# Altium footprint library Connector_IDC.PcbLib: 182 footprints (part 5 of 12)
Each footprint in its own frame and in the unit in brackets; x right, y up, seen from the top. Pads: shape width x height; smd on the part's side, far side on the other; paste and mask are expansions set on the pad; w line width, h text height; cw(c..) or ccw(c..) is an arc to the next point about the centre after c.
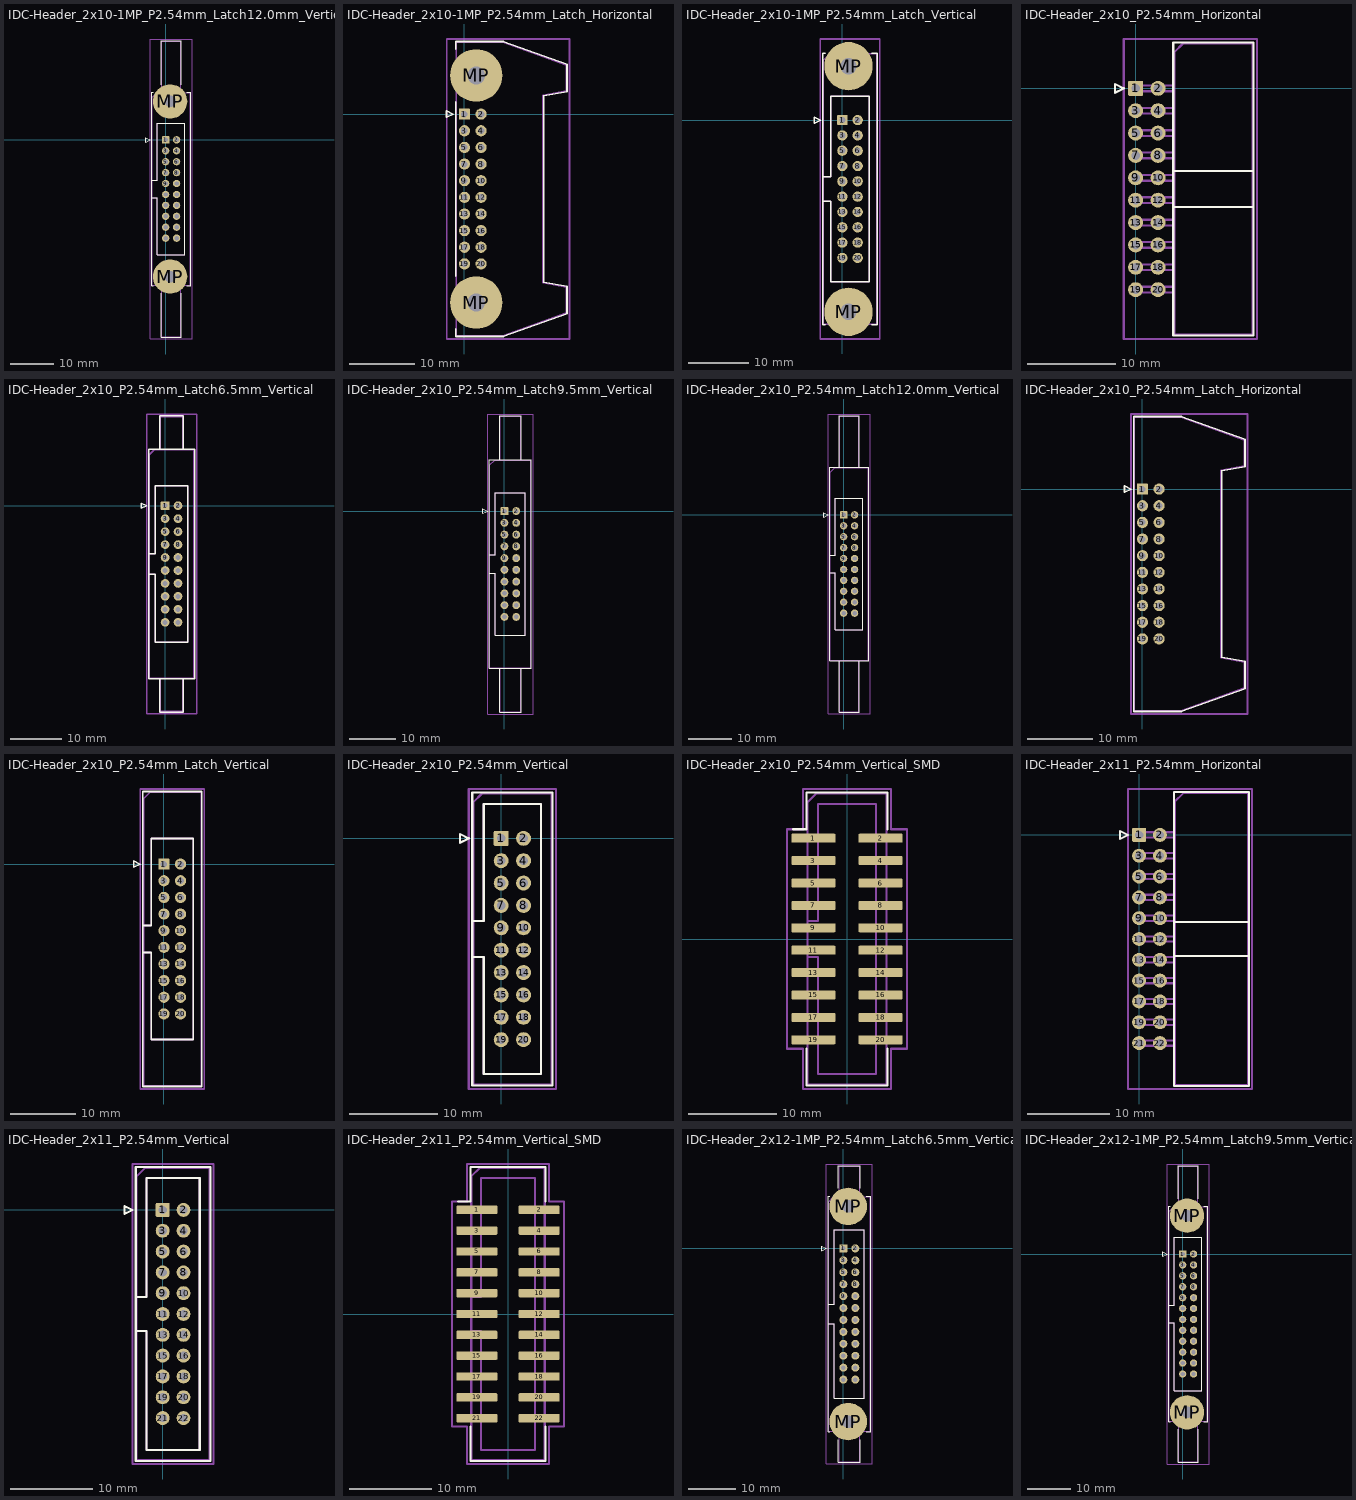
[diagram p4: the footprints below, top view; thin cyan lines are the x and y axes]

## IDC-Header_2x10-1MP_P2.54mm_Latch12.0mm_Vertical [mm]
pads (22):
  rrect15% 1.7x1.7 hole 1: 1(0,0)
  round 1.7 hole 1: 2(2.54,0) 3(0,-2.54) 4(2.54,-2.54) 5(0,-5.08) 6(2.54,-5.08) 7(0,-7.62) 8(2.54,-7.62) 9(0,-10.16) 10(2.54,-10.16) 11(0,-12.7) 12(2.54,-12.7) 13(0,-15.24) 14(2.54,-15.24) 15(0,-17.78) 16(2.54,-17.78) 17(0,-20.32) 18(2.54,-20.32) 19(0,-22.86) 20(2.54,-22.86)
  round 8 hole 2.69: MP(1.02,-31.8) MP(1.02,8.94)
F.SilkS:
  lines w0.254: -3.24,-13.48 -1.93,-13.48 -1.93,-26.78 4.47,-26.78 4.47,3.92 -1.93,3.92 -1.93,-9.38 -3.24,-9.38 ; -2.87,-33.94 -3.24,-33.94 -3.24,11.08 -2.87,11.08 ; -1.04,-35.69 -1.04,-45.94 3.58,-45.94 3.58,-35.69 ; -1.04,12.83 -1.04,23.08 3.58,23.08 3.58,12.83 ; 4.91,-33.94 5.78,-33.94 5.78,11.08 4.91,11.08 ; -4.63,-0.5 -3.63,0 -4.63,0.5 -4.63,-0.5
Top Assembly:
  lines w0.254: -3.13,-13.48 -1.93,-13.48 -1.93,-26.78 4.47,-26.78 4.47,3.92 -1.93,3.92 -1.93,-9.38 -3.13,-9.38 ; -0.93,-33.83 -0.93,-45.83 3.47,-45.83 3.47,-33.83 ; -0.93,10.97 -0.93,22.97 3.47,22.97 3.47,10.97 ; -3.13,-33.83 5.67,-33.83 5.67,10.97 -2.13,10.97 -3.13,9.97 -3.13,-33.83
  text "'.Designator'" at 2.11,-15.477 h1
Top Courtyard:
  lines w0.254: -3.63,-46.33 6.17,-46.33 6.17,23.47 -3.63,23.47 -3.63,-46.33
Top Designator:
  text ".Designator" at -6.848,-11.938 h1.52

## IDC-Header_2x10-1MP_P2.54mm_Latch_Horizontal [mm]
pads (22):
  rrect15% 1.7x1.7 hole 1: 1(0,0)
  round 1.7 hole 1: 2(2.54,0) 3(0,-2.54) 4(2.54,-2.54) 5(0,-5.08) 6(2.54,-5.08) 7(0,-7.62) 8(2.54,-7.62) 9(0,-10.16) 10(2.54,-10.16) 11(0,-12.7) 12(2.54,-12.7) 13(0,-15.24) 14(2.54,-15.24) 15(0,-17.78) 16(2.54,-17.78) 17(0,-20.32) 18(2.54,-20.32) 19(0,-22.86) 20(2.54,-22.86)
  round 8 hole 2.69: MP(1.8,-28.765) MP(1.8,5.905)
F.SilkS:
  lines w0.254: -1.35,-32.765 -1.35,-33.94 5.98,-33.94 15.64,-30.47 15.64,-26.28 12.08,-25.65 12.08,2.79 15.64,3.42 15.64,7.61 5.98,11.08 -1.35,11.08 -1.35,9.905 ; -1.35,-24.765 -1.35,1.905 ; -2.74,-0.5 -1.74,0 -2.74,0.5 -2.74,-0.5
Top Assembly:
  lines w0.254: -1.24,-33.83 5.87,-33.83 15.53,-30.36 15.53,-26.39 11.97,-25.76 11.97,2.9 15.53,3.53 15.53,7.5 5.87,10.97 -1.24,10.97 -1.24,-33.83
  text "'.Designator'" at 7.985,-15.477 h1
Top Courtyard:
  lines w0.254: -2.7,-34.33 16.03,-34.33 16.03,11.47 -2.7,11.47 -2.7,-34.33
Top Designator:
  text ".Designator" at -0.973,-11.938 h1.52

## IDC-Header_2x10-1MP_P2.54mm_Latch_Vertical [mm]
pads (22):
  rrect15% 1.7x1.7 hole 1: 1(0,0)
  round 1.7 hole 1: 2(2.54,0) 3(0,-2.54) 4(2.54,-2.54) 5(0,-5.08) 6(2.54,-5.08) 7(0,-7.62) 8(2.54,-7.62) 9(0,-10.16) 10(2.54,-10.16) 11(0,-12.7) 12(2.54,-12.7) 13(0,-15.24) 14(2.54,-15.24) 15(0,-17.78) 16(2.54,-17.78) 17(0,-20.32) 18(2.54,-20.32) 19(0,-22.86) 20(2.54,-22.86)
  round 8 hole 2.69: MP(1.02,-31.8) MP(1.02,8.94)
F.SilkS:
  lines w0.254: -3.24,-13.48 -1.93,-13.48 -1.93,-26.78 4.47,-26.78 4.47,3.92 -1.93,3.92 -1.93,-9.38 -3.24,-9.38 ; -2.87,-33.94 -3.24,-33.94 -3.24,11.08 -2.87,11.08 ; 4.91,-33.94 5.78,-33.94 5.78,11.08 4.91,11.08 ; -4.63,-0.5 -3.63,0 -4.63,0.5 -4.63,-0.5
Top Assembly:
  lines w0.254: -3.13,-13.48 -1.93,-13.48 -1.93,-26.78 4.47,-26.78 4.47,3.92 -1.93,3.92 -1.93,-9.38 -3.13,-9.38 ; -3.13,-33.83 5.67,-33.83 5.67,10.97 -2.13,10.97 -3.13,9.97 -3.13,-33.83
  text "'.Designator'" at 2.11,-15.477 h1
Top Courtyard:
  lines w0.254: -3.63,-36.3 6.17,-36.3 6.17,13.44 -3.63,13.44 -3.63,-36.3
Top Designator:
  text ".Designator" at -6.848,-11.938 h1.52

## IDC-Header_2x10_P2.54mm_Horizontal [mm]
pads (20):
  rrect15% 1.7x1.7 hole 1: 1(0,0)
  round 1.7 hole 1: 2(2.54,0) 3(0,-2.54) 4(2.54,-2.54) 5(0,-5.08) 6(2.54,-5.08) 7(0,-7.62) 8(2.54,-7.62) 9(0,-10.16) 10(2.54,-10.16) 11(0,-12.7) 12(2.54,-12.7) 13(0,-15.24) 14(2.54,-15.24) 15(0,-17.78) 16(2.54,-17.78) 17(0,-20.32) 18(2.54,-20.32) 19(0,-22.86) 20(2.54,-22.86)
F.SilkS:
  lines w0.254: 4.27,-13.48 13.39,-13.48 ; 4.27,-9.38 13.39,-9.38 ; -2.35,-0.5 -1.35,0 -2.35,0.5 -2.35,-0.5 ; 4.27,-28.07 13.39,-28.07 13.39,5.21 4.27,5.21 4.27,-28.07
Top Assembly:
  lines w0.254: 4.38,-23.18 -0.32,-23.18 -0.32,-22.54 4.38,-22.54 ; 4.38,-20.64 -0.32,-20.64 -0.32,-20 4.38,-20 ; 4.38,-18.1 -0.32,-18.1 -0.32,-17.46 4.38,-17.46 ; 4.38,-15.56 -0.32,-15.56 -0.32,-14.92 4.38,-14.92 ; 4.38,-13.48 13.28,-13.48 ; 4.38,-13.02 -0.32,-13.02 -0.32,-12.38 4.38,-12.38 ; 4.38,-10.48 -0.32,-10.48 -0.32,-9.84 4.38,-9.84 ; 4.38,-9.38 13.28,-9.38 ; 4.38,-7.94 -0.32,-7.94 -0.32,-7.3 4.38,-7.3 ; 4.38,-5.4 -0.32,-5.4 -0.32,-4.76 4.38,-4.76 ; 4.38,-2.86 -0.32,-2.86 -0.32,-2.22 4.38,-2.22 ; 4.38,-0.32 -0.32,-0.32 -0.32,0.32 4.38,0.32 ; 4.38,-27.96 13.28,-27.96 13.28,5.1 5.38,5.1 4.38,4.1 4.38,-27.96
  text "'.Designator'" at 9.67,-15.477 h1
Top Courtyard:
  lines w0.254: -1.35,-28.46 13.78,-28.46 13.78,5.6 -1.35,5.6 -1.35,-28.46
Top Designator:
  text ".Designator" at -1.903,-11.938 h1.52

## IDC-Header_2x10_P2.54mm_Latch6.5mm_Vertical [mm]
pads (20):
  rrect15% 1.7x1.7 hole 1: 1(0,0)
  round 1.7 hole 1: 2(2.54,0) 3(0,-2.54) 4(2.54,-2.54) 5(0,-5.08) 6(2.54,-5.08) 7(0,-7.62) 8(2.54,-7.62) 9(0,-10.16) 10(2.54,-10.16) 11(0,-12.7) 12(2.54,-12.7) 13(0,-15.24) 14(2.54,-15.24) 15(0,-17.78) 16(2.54,-17.78) 17(0,-20.32) 18(2.54,-20.32) 19(0,-22.86) 20(2.54,-22.86)
F.SilkS:
  lines w0.254: -3.24,-13.48 -1.93,-13.48 -1.93,-26.78 4.47,-26.78 4.47,3.92 -1.93,3.92 -1.93,-9.38 -3.24,-9.38 ; -1.04,-33.94 -1.04,-40.44 3.58,-40.44 3.58,-33.94 ; -1.04,11.08 -1.04,17.58 3.58,17.58 3.58,11.08 ; -4.63,-0.5 -3.63,0 -4.63,0.5 -4.63,-0.5 ; -3.24,-33.94 5.78,-33.94 5.78,11.08 -3.24,11.08 -3.24,-33.94
Top Assembly:
  lines w0.254: -3.13,-13.48 -1.93,-13.48 -1.93,-26.78 4.47,-26.78 4.47,3.92 -1.93,3.92 -1.93,-9.38 -3.13,-9.38 ; -0.93,-33.83 -0.93,-40.33 3.47,-40.33 3.47,-33.83 ; -0.93,10.97 -0.93,17.47 3.47,17.47 3.47,10.97 ; -3.13,-33.83 5.67,-33.83 5.67,10.97 -2.13,10.97 -3.13,9.97 -3.13,-33.83
  text "'.Designator'" at 2.11,-15.477 h1
Top Courtyard:
  lines w0.254: -3.63,-40.83 6.17,-40.83 6.17,17.97 -3.63,17.97 -3.63,-40.83
Top Designator:
  text ".Designator" at -6.848,-11.938 h1.52

## IDC-Header_2x10_P2.54mm_Latch9.5mm_Vertical [mm]
pads (20):
  rrect15% 1.7x1.7 hole 1: 1(0,0)
  round 1.7 hole 1: 2(2.54,0) 3(0,-2.54) 4(2.54,-2.54) 5(0,-5.08) 6(2.54,-5.08) 7(0,-7.62) 8(2.54,-7.62) 9(0,-10.16) 10(2.54,-10.16) 11(0,-12.7) 12(2.54,-12.7) 13(0,-15.24) 14(2.54,-15.24) 15(0,-17.78) 16(2.54,-17.78) 17(0,-20.32) 18(2.54,-20.32) 19(0,-22.86) 20(2.54,-22.86)
F.SilkS:
  lines w0.254: -3.24,-13.48 -1.93,-13.48 -1.93,-26.78 4.47,-26.78 4.47,3.92 -1.93,3.92 -1.93,-9.38 -3.24,-9.38 ; -1.04,-33.94 -1.04,-43.44 3.58,-43.44 3.58,-33.94 ; -1.04,11.08 -1.04,20.58 3.58,20.58 3.58,11.08 ; -4.63,-0.5 -3.63,0 -4.63,0.5 -4.63,-0.5 ; -3.24,-33.94 5.78,-33.94 5.78,11.08 -3.24,11.08 -3.24,-33.94
Top Assembly:
  lines w0.254: -3.13,-13.48 -1.93,-13.48 -1.93,-26.78 4.47,-26.78 4.47,3.92 -1.93,3.92 -1.93,-9.38 -3.13,-9.38 ; -0.93,-33.83 -0.93,-43.33 3.47,-43.33 3.47,-33.83 ; -0.93,10.97 -0.93,20.47 3.47,20.47 3.47,10.97 ; -3.13,-33.83 5.67,-33.83 5.67,10.97 -2.13,10.97 -3.13,9.97 -3.13,-33.83
  text "'.Designator'" at 2.11,-15.477 h1
Top Courtyard:
  lines w0.254: -3.63,-43.83 6.17,-43.83 6.17,20.97 -3.63,20.97 -3.63,-43.83
Top Designator:
  text ".Designator" at -6.848,-11.938 h1.52

## IDC-Header_2x10_P2.54mm_Latch12.0mm_Vertical [mm]
pads (20):
  rrect15% 1.7x1.7 hole 1: 1(0,0)
  round 1.7 hole 1: 2(2.54,0) 3(0,-2.54) 4(2.54,-2.54) 5(0,-5.08) 6(2.54,-5.08) 7(0,-7.62) 8(2.54,-7.62) 9(0,-10.16) 10(2.54,-10.16) 11(0,-12.7) 12(2.54,-12.7) 13(0,-15.24) 14(2.54,-15.24) 15(0,-17.78) 16(2.54,-17.78) 17(0,-20.32) 18(2.54,-20.32) 19(0,-22.86) 20(2.54,-22.86)
F.SilkS:
  lines w0.254: -3.24,-13.48 -1.93,-13.48 -1.93,-26.78 4.47,-26.78 4.47,3.92 -1.93,3.92 -1.93,-9.38 -3.24,-9.38 ; -1.04,-33.94 -1.04,-45.94 3.58,-45.94 3.58,-33.94 ; -1.04,11.08 -1.04,23.08 3.58,23.08 3.58,11.08 ; -4.63,-0.5 -3.63,0 -4.63,0.5 -4.63,-0.5 ; -3.24,-33.94 5.78,-33.94 5.78,11.08 -3.24,11.08 -3.24,-33.94
Top Assembly:
  lines w0.254: -3.13,-13.48 -1.93,-13.48 -1.93,-26.78 4.47,-26.78 4.47,3.92 -1.93,3.92 -1.93,-9.38 -3.13,-9.38 ; -0.93,-33.83 -0.93,-45.83 3.47,-45.83 3.47,-33.83 ; -0.93,10.97 -0.93,22.97 3.47,22.97 3.47,10.97 ; -3.13,-33.83 5.67,-33.83 5.67,10.97 -2.13,10.97 -3.13,9.97 -3.13,-33.83
  text "'.Designator'" at 2.11,-15.477 h1
Top Courtyard:
  lines w0.254: -3.63,-46.33 6.17,-46.33 6.17,23.47 -3.63,23.47 -3.63,-46.33
Top Designator:
  text ".Designator" at -6.848,-11.938 h1.52

## IDC-Header_2x10_P2.54mm_Latch_Horizontal [mm]
pads (20):
  rrect15% 1.7x1.7 hole 1: 1(0,0)
  round 1.7 hole 1: 2(2.54,0) 3(0,-2.54) 4(2.54,-2.54) 5(0,-5.08) 6(2.54,-5.08) 7(0,-7.62) 8(2.54,-7.62) 9(0,-10.16) 10(2.54,-10.16) 11(0,-12.7) 12(2.54,-12.7) 13(0,-15.24) 14(2.54,-15.24) 15(0,-17.78) 16(2.54,-17.78) 17(0,-20.32) 18(2.54,-20.32) 19(0,-22.86) 20(2.54,-22.86)
F.SilkS:
  lines w0.254: -2.74,-0.5 -1.74,0 -2.74,0.5 -2.74,-0.5 ; -1.35,-33.94 5.98,-33.94 15.64,-30.47 15.64,-26.28 12.08,-25.65 12.08,2.79 15.64,3.42 15.64,7.61 5.98,11.08 -1.35,11.08 -1.35,-33.94
Top Assembly:
  lines w0.254: -1.24,-33.83 5.87,-33.83 15.53,-30.36 15.53,-26.39 11.97,-25.76 11.97,2.9 15.53,3.53 15.53,7.5 5.87,10.97 -1.24,10.97 -1.24,-33.83
  text "'.Designator'" at 7.985,-15.477 h1
Top Courtyard:
  lines w0.254: -1.74,-34.33 16.03,-34.33 16.03,11.47 -1.74,11.47 -1.74,-34.33
Top Designator:
  text ".Designator" at -0.973,-11.938 h1.52

## IDC-Header_2x10_P2.54mm_Latch_Vertical [mm]
pads (20):
  rrect15% 1.7x1.7 hole 1: 1(0,0)
  round 1.7 hole 1: 2(2.54,0) 3(0,-2.54) 4(2.54,-2.54) 5(0,-5.08) 6(2.54,-5.08) 7(0,-7.62) 8(2.54,-7.62) 9(0,-10.16) 10(2.54,-10.16) 11(0,-12.7) 12(2.54,-12.7) 13(0,-15.24) 14(2.54,-15.24) 15(0,-17.78) 16(2.54,-17.78) 17(0,-20.32) 18(2.54,-20.32) 19(0,-22.86) 20(2.54,-22.86)
F.SilkS:
  lines w0.254: -3.24,-13.48 -1.93,-13.48 -1.93,-26.78 4.47,-26.78 4.47,3.92 -1.93,3.92 -1.93,-9.38 -3.24,-9.38 ; -4.63,-0.5 -3.63,0 -4.63,0.5 -4.63,-0.5 ; -3.24,-33.94 5.78,-33.94 5.78,11.08 -3.24,11.08 -3.24,-33.94
Top Assembly:
  lines w0.254: -3.13,-13.48 -1.93,-13.48 -1.93,-26.78 4.47,-26.78 4.47,3.92 -1.93,3.92 -1.93,-9.38 -3.13,-9.38 ; -3.13,-33.83 5.67,-33.83 5.67,10.97 -2.13,10.97 -3.13,9.97 -3.13,-33.83
  text "'.Designator'" at 2.11,-15.477 h1
Top Courtyard:
  lines w0.254: -3.63,-34.33 6.17,-34.33 6.17,11.47 -3.63,11.47 -3.63,-34.33
Top Designator:
  text ".Designator" at -6.848,-11.938 h1.52

## IDC-Header_2x10_P2.54mm_Vertical [mm]
pads (20):
  rrect15% 1.7x1.7 hole 1: 1(0,0)
  round 1.7 hole 1: 2(2.54,0) 3(0,-2.54) 4(2.54,-2.54) 5(0,-5.08) 6(2.54,-5.08) 7(0,-7.62) 8(2.54,-7.62) 9(0,-10.16) 10(2.54,-10.16) 11(0,-12.7) 12(2.54,-12.7) 13(0,-15.24) 14(2.54,-15.24) 15(0,-17.78) 16(2.54,-17.78) 17(0,-20.32) 18(2.54,-20.32) 19(0,-22.86) 20(2.54,-22.86)
F.SilkS:
  lines w0.254: -3.29,-13.48 -1.98,-13.48 -1.98,-26.77 4.52,-26.77 4.52,3.91 -1.98,3.91 -1.98,-9.38 -3.29,-9.38 ; -4.68,-0.5 -3.68,0 -4.68,0.5 -4.68,-0.5 ; -3.29,-28.07 5.83,-28.07 5.83,5.21 -3.29,5.21 -3.29,-28.07
Top Assembly:
  lines w0.254: -3.18,-13.48 -1.98,-13.48 -1.98,-26.77 4.52,-26.77 4.52,3.91 -1.98,3.91 -1.98,-9.38 -3.18,-9.38 ; -3.18,-27.96 5.72,-27.96 5.72,5.1 -2.18,5.1 -3.18,4.1 -3.18,-27.96
  text "'.Designator'" at 2.11,-15.477 h1
Top Courtyard:
  lines w0.254: -3.68,-28.46 6.22,-28.46 6.22,5.6 -3.68,5.6 -3.68,-28.46
Top Designator:
  text ".Designator" at -6.848,-11.938 h1.52

## IDC-Header_2x10_P2.54mm_Vertical_SMD [mm]
pads (20):
  rrect25% 5x1.02 smd: 1(-3.8,11.43) 2(3.8,11.43) 3(-3.8,8.89) 4(3.8,8.89) 5(-3.8,6.35) 6(3.8,6.35) 7(-3.8,3.81) 8(3.8,3.81) 9(-3.8,1.27) 10(3.8,1.27) 11(-3.8,-1.27) 12(3.8,-1.27) 13(-3.8,-3.81) 14(3.8,-3.81) 15(-3.8,-6.35) 16(3.8,-6.35) 17(-3.8,-8.89) 18(3.8,-8.89) 19(-3.8,-11.43) 20(3.8,-11.43)
F.SilkS:
  lines w0.254: -6.085,12.44 -4.585,12.44 -4.585,16.62 4.585,16.62 4.585,12.44 ; -4.585,-12.44 -4.585,-16.62 4.585,-16.62 4.585,-12.44
Top Assembly:
  lines w0.254: -4.475,-2.05 -3.275,-2.05 -3.275,-15.31 3.275,-15.31 3.275,15.31 -3.275,15.31 -3.275,2.05 -4.475,2.05 ; -4.475,-16.51 4.475,-16.51 4.475,16.51 -3.475,16.51 -4.475,15.51 -4.475,-16.51
  text "'.Designator'" at 0.84,-4.047 h1
Top Courtyard:
  lines w0.254: -6.8,-12.44 -4.98,-12.44 -4.98,-17.01 4.98,-17.01 4.98,-12.44 6.8,-12.44 6.8,12.44 4.98,12.44 4.98,17.01 -4.98,17.01 -4.98,12.44 -6.8,12.44 -6.8,-12.44
Top Designator:
  text ".Designator" at -7.618,-0.508 h1.52

## IDC-Header_2x11_P2.54mm_Horizontal [mm]
pads (22):
  rrect15% 1.7x1.7 hole 1: 1(0,0)
  round 1.7 hole 1: 2(2.54,0) 3(0,-2.54) 4(2.54,-2.54) 5(0,-5.08) 6(2.54,-5.08) 7(0,-7.62) 8(2.54,-7.62) 9(0,-10.16) 10(2.54,-10.16) 11(0,-12.7) 12(2.54,-12.7) 13(0,-15.24) 14(2.54,-15.24) 15(0,-17.78) 16(2.54,-17.78) 17(0,-20.32) 18(2.54,-20.32) 19(0,-22.86) 20(2.54,-22.86) 21(0,-25.4) 22(2.54,-25.4)
F.SilkS:
  lines w0.254: 4.27,-14.75 13.39,-14.75 ; 4.27,-10.65 13.39,-10.65 ; -2.35,-0.5 -1.35,0 -2.35,0.5 -2.35,-0.5 ; 4.27,-30.61 13.39,-30.61 13.39,5.21 4.27,5.21 4.27,-30.61
Top Assembly:
  lines w0.254: 4.38,-25.72 -0.32,-25.72 -0.32,-25.08 4.38,-25.08 ; 4.38,-23.18 -0.32,-23.18 -0.32,-22.54 4.38,-22.54 ; 4.38,-20.64 -0.32,-20.64 -0.32,-20 4.38,-20 ; 4.38,-18.1 -0.32,-18.1 -0.32,-17.46 4.38,-17.46 ; 4.38,-15.56 -0.32,-15.56 -0.32,-14.92 4.38,-14.92 ; 4.38,-14.75 13.28,-14.75 ; 4.38,-13.02 -0.32,-13.02 -0.32,-12.38 4.38,-12.38 ; 4.38,-10.65 13.28,-10.65 ; 4.38,-10.48 -0.32,-10.48 -0.32,-9.84 4.38,-9.84 ; 4.38,-7.94 -0.32,-7.94 -0.32,-7.3 4.38,-7.3 ; 4.38,-5.4 -0.32,-5.4 -0.32,-4.76 4.38,-4.76 ; 4.38,-2.86 -0.32,-2.86 -0.32,-2.22 4.38,-2.22 ; 4.38,-0.32 -0.32,-0.32 -0.32,0.32 4.38,0.32 ; 4.38,-30.5 13.28,-30.5 13.28,5.1 5.38,5.1 4.38,4.1 4.38,-30.5
  text "'.Designator'" at 9.67,-16.747 h1
Top Courtyard:
  lines w0.254: -1.35,-31 13.78,-31 13.78,5.6 -1.35,5.6 -1.35,-31
Top Designator:
  text ".Designator" at -1.903,-13.208 h1.52

## IDC-Header_2x11_P2.54mm_Vertical [mm]
pads (22):
  rrect15% 1.7x1.7 hole 1: 1(0,0)
  round 1.7 hole 1: 2(2.54,0) 3(0,-2.54) 4(2.54,-2.54) 5(0,-5.08) 6(2.54,-5.08) 7(0,-7.62) 8(2.54,-7.62) 9(0,-10.16) 10(2.54,-10.16) 11(0,-12.7) 12(2.54,-12.7) 13(0,-15.24) 14(2.54,-15.24) 15(0,-17.78) 16(2.54,-17.78) 17(0,-20.32) 18(2.54,-20.32) 19(0,-22.86) 20(2.54,-22.86) 21(0,-25.4) 22(2.54,-25.4)
F.SilkS:
  lines w0.254: -3.29,-14.75 -1.98,-14.75 -1.98,-29.31 4.52,-29.31 4.52,3.91 -1.98,3.91 -1.98,-10.65 -3.29,-10.65 ; -4.68,-0.5 -3.68,0 -4.68,0.5 -4.68,-0.5 ; -3.29,-30.61 5.83,-30.61 5.83,5.21 -3.29,5.21 -3.29,-30.61
Top Assembly:
  lines w0.254: -3.18,-14.75 -1.98,-14.75 -1.98,-29.31 4.52,-29.31 4.52,3.91 -1.98,3.91 -1.98,-10.65 -3.18,-10.65 ; -3.18,-30.5 5.72,-30.5 5.72,5.1 -2.18,5.1 -3.18,4.1 -3.18,-30.5
  text "'.Designator'" at 2.11,-16.747 h1
Top Courtyard:
  lines w0.254: -3.68,-31 6.22,-31 6.22,5.6 -3.68,5.6 -3.68,-31
Top Designator:
  text ".Designator" at -6.848,-13.208 h1.52

## IDC-Header_2x11_P2.54mm_Vertical_SMD [mm]
pads (22):
  rrect25% 5x1.02 smd: 1(-3.8,12.7) 2(3.8,12.7) 3(-3.8,10.16) 4(3.8,10.16) 5(-3.8,7.62) 6(3.8,7.62) 7(-3.8,5.08) 8(3.8,5.08) 9(-3.8,2.54) 10(3.8,2.54) 11(-3.8,0) 12(3.8,0) 13(-3.8,-2.54) 14(3.8,-2.54) 15(-3.8,-5.08) 16(3.8,-5.08) 17(-3.8,-7.62) 18(3.8,-7.62) 19(-3.8,-10.16) 20(3.8,-10.16) 21(-3.8,-12.7) 22(3.8,-12.7)
F.SilkS:
  lines w0.254: -6.085,13.71 -4.585,13.71 -4.585,17.89 4.585,17.89 4.585,13.71 ; -4.585,-13.71 -4.585,-17.89 4.585,-17.89 4.585,-13.71
Top Assembly:
  lines w0.254: -4.475,-2.05 -3.275,-2.05 -3.275,-16.58 3.275,-16.58 3.275,16.58 -3.275,16.58 -3.275,2.05 -4.475,2.05 ; -4.475,-17.78 4.475,-17.78 4.475,17.78 -3.475,17.78 -4.475,16.78 -4.475,-17.78
  text "'.Designator'" at 0.84,-4.047 h1
Top Courtyard:
  lines w0.254: -6.8,-13.71 -4.98,-13.71 -4.98,-18.28 4.98,-18.28 4.98,-13.71 6.8,-13.71 6.8,13.71 4.98,13.71 4.98,18.28 -4.98,18.28 -4.98,13.71 -6.8,13.71 -6.8,-13.71
Top Designator:
  text ".Designator" at -7.618,-0.508 h1.52

## IDC-Header_2x12-1MP_P2.54mm_Latch6.5mm_Vertical [mm]
pads (26):
  rrect15% 1.7x1.7 hole 1: 1(0,0)
  round 1.7 hole 1: 2(2.54,0) 3(0,-2.54) 4(2.54,-2.54) 5(0,-5.08) 6(2.54,-5.08) 7(0,-7.62) 8(2.54,-7.62) 9(0,-10.16) 10(2.54,-10.16) 11(0,-12.7) 12(2.54,-12.7) 13(0,-15.24) 14(2.54,-15.24) 15(0,-17.78) 16(2.54,-17.78) 17(0,-20.32) 18(2.54,-20.32) 19(0,-22.86) 20(2.54,-22.86) 21(0,-25.4) 22(2.54,-25.4) 23(0,-27.94) 24(2.54,-27.94)
  round 8 hole 2.69: MP(1.02,-36.88) MP(1.02,8.94)
F.SilkS:
  lines w0.254: -3.24,-16.02 -1.93,-16.02 -1.93,-31.86 4.47,-31.86 4.47,3.92 -1.93,3.92 -1.93,-11.92 -3.24,-11.92 ; -2.87,-39.02 -3.24,-39.02 -3.24,11.08 -2.87,11.08 ; -1.04,-40.77 -1.04,-45.52 3.58,-45.52 3.58,-40.77 ; -1.04,12.83 -1.04,17.58 3.58,17.58 3.58,12.83 ; 4.91,-39.02 5.78,-39.02 5.78,11.08 4.91,11.08 ; -4.63,-0.5 -3.63,0 -4.63,0.5 -4.63,-0.5
Top Assembly:
  lines w0.254: -3.13,-16.02 -1.93,-16.02 -1.93,-31.86 4.47,-31.86 4.47,3.92 -1.93,3.92 -1.93,-11.92 -3.13,-11.92 ; -0.93,-38.91 -0.93,-45.41 3.47,-45.41 3.47,-38.91 ; -0.93,10.97 -0.93,17.47 3.47,17.47 3.47,10.97 ; -3.13,-38.91 5.67,-38.91 5.67,10.97 -2.13,10.97 -3.13,9.97 -3.13,-38.91
  text "'.Designator'" at 2.11,-18.017 h1
Top Courtyard:
  lines w0.254: -3.63,-45.91 6.17,-45.91 6.17,17.97 -3.63,17.97 -3.63,-45.91
Top Designator:
  text ".Designator" at -6.848,-14.478 h1.52

## IDC-Header_2x12-1MP_P2.54mm_Latch9.5mm_Vertical [mm]
pads (26):
  rrect15% 1.7x1.7 hole 1: 1(0,0)
  round 1.7 hole 1: 2(2.54,0) 3(0,-2.54) 4(2.54,-2.54) 5(0,-5.08) 6(2.54,-5.08) 7(0,-7.62) 8(2.54,-7.62) 9(0,-10.16) 10(2.54,-10.16) 11(0,-12.7) 12(2.54,-12.7) 13(0,-15.24) 14(2.54,-15.24) 15(0,-17.78) 16(2.54,-17.78) 17(0,-20.32) 18(2.54,-20.32) 19(0,-22.86) 20(2.54,-22.86) 21(0,-25.4) 22(2.54,-25.4) 23(0,-27.94) 24(2.54,-27.94)
  round 8 hole 2.69: MP(1.02,-36.88) MP(1.02,8.94)
F.SilkS:
  lines w0.254: -3.24,-16.02 -1.93,-16.02 -1.93,-31.86 4.47,-31.86 4.47,3.92 -1.93,3.92 -1.93,-11.92 -3.24,-11.92 ; -2.87,-39.02 -3.24,-39.02 -3.24,11.08 -2.87,11.08 ; -1.04,-40.77 -1.04,-48.52 3.58,-48.52 3.58,-40.77 ; -1.04,12.83 -1.04,20.58 3.58,20.58 3.58,12.83 ; 4.91,-39.02 5.78,-39.02 5.78,11.08 4.91,11.08 ; -4.63,-0.5 -3.63,0 -4.63,0.5 -4.63,-0.5
Top Assembly:
  lines w0.254: -3.13,-16.02 -1.93,-16.02 -1.93,-31.86 4.47,-31.86 4.47,3.92 -1.93,3.92 -1.93,-11.92 -3.13,-11.92 ; -0.93,-38.91 -0.93,-48.41 3.47,-48.41 3.47,-38.91 ; -0.93,10.97 -0.93,20.47 3.47,20.47 3.47,10.97 ; -3.13,-38.91 5.67,-38.91 5.67,10.97 -2.13,10.97 -3.13,9.97 -3.13,-38.91
  text "'.Designator'" at 2.11,-18.017 h1
Top Courtyard:
  lines w0.254: -3.63,-48.91 6.17,-48.91 6.17,20.97 -3.63,20.97 -3.63,-48.91
Top Designator:
  text ".Designator" at -6.848,-14.478 h1.52